# EAGLE library part RIVERDI-MATRIX-HMI (library 2020)
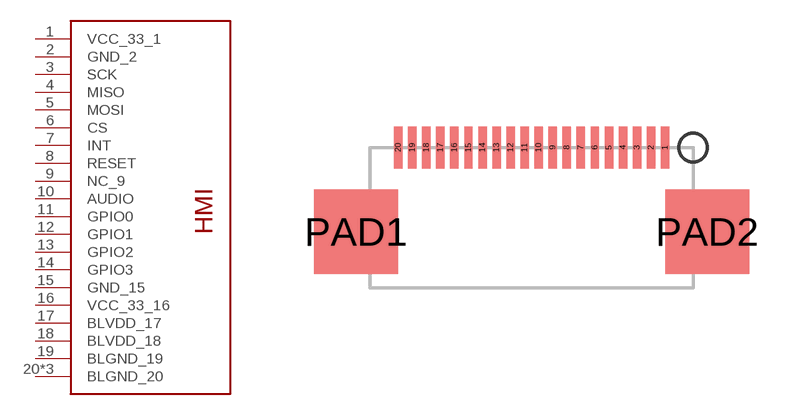
[diagram p1: symbol with the pads of FFC-20; footprint FFC-20]

Designator prefix -

## RIVERDI-MATRIX-HMI  [FFC-20]
1  VCC_33_1
2  GND_2
3  SCK
4  MISO
5  MOSI
6  CS
7  INT
8  RESET
9  NC_9
10  AUDIO
11  GPIO0
12  GPIO1
13  GPIO2
14  GPIO3
15  GND_15
16  VCC_33_16
17  BLVDD_17
18  BLVDD_18
19  BLGND_19
20  BLGND_20
PAD1  BLGND_20
PAD2  BLGND_20

## Footprint FFC-20 (pad centres in mm)
smd 0.3 x 1.5: 1 9.5,0; 2 9,0; 3 8.5,0; 4 8,0; 5 7.5,0; 6 7,0; 7 6.5,0; 8 6,0; 9 5.5,0; 10 5,0; 11 4.5,0; 12 4,0; 13 3.5,0; 14 3,0; 15 2.5,0; 16 2,0; 17 1.5,0; 18 1,0; 19 0.5,0; 20 0,0
smd 3 x 3: PAD1 -1.5,-3; PAD2 11,-3